# Altium footprint library BOURNS_2301-H-RC.PcbLib: 1 footprints
Each footprint in its own frame and in the unit in brackets; x right, y up, seen from the top. Pads: shape width x height; smd on the part's side, far side on the other; paste and mask are expansions set on the pad; w line width, h text height; cw(c..) or ccw(c..) is an arc to the next point about the centre after c.
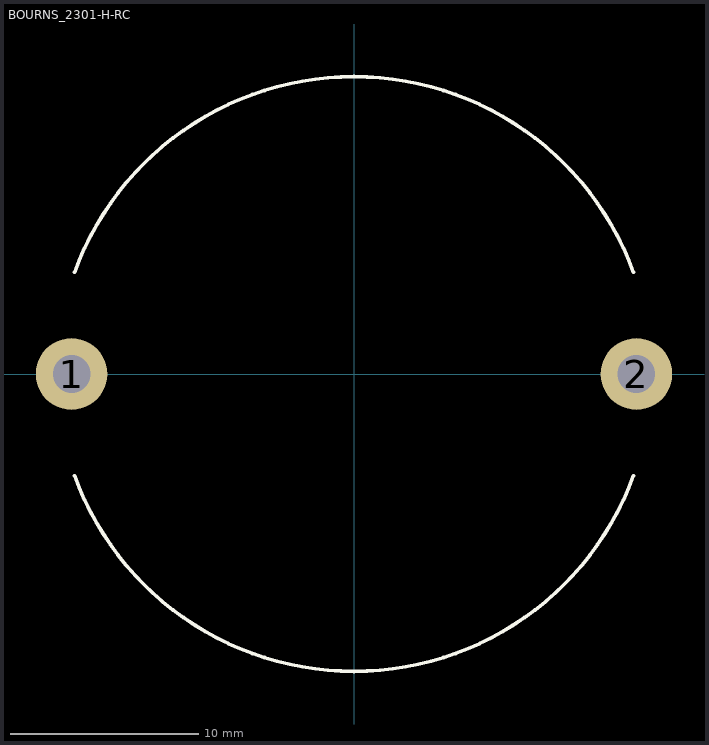
[diagram p0: the footprint, top view; thin cyan lines are the x and y axes]

## BOURNS_2301-H-RC [mm]
pads (2):
  round 3.8 hole 2: 1(-15,0) 2(15,0)
Top Overlay:
  lines w0.2: -14.843,-5.402 ccw(c0,0) 14.843,-5.402 ; -14.843,5.402 cw(c0,0) 14.843,5.402
3D body "BOURNS_2301-H-RC.stp": height 15.9, standoff -12.7, extent -15.774,-15.824 15.874,15.824